# EAGLE library part 1X10 (library teelsys-0.2)
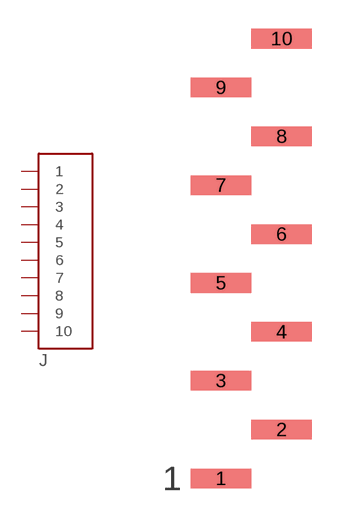
[diagram p4: symbol with the pads of 1X10_SMD; footprint 1X10_SMD]

Designator prefix J

## 1X10SMD  [1X10_SMD]
1  1
2  2
3  3
4  4
5  5
6  6
7  7
8  8
9  9
10  10

## Footprint 1X10_SMD (pad centres in mm)
smd 3.15 x 1.02: 1 0,0; 2 3.15,2.54; 3 0,5.08; 4 3.15,7.62; 5 0,10.16; 6 3.15,12.7; 7 0,15.24; 8 3.15,17.78; 9 0,20.32; 10 3.15,22.86